# Altium integrated library IR-sensor.IntLib: 17 symbols
Pins are listed as number, name and electrical type; pins without a type are passive.

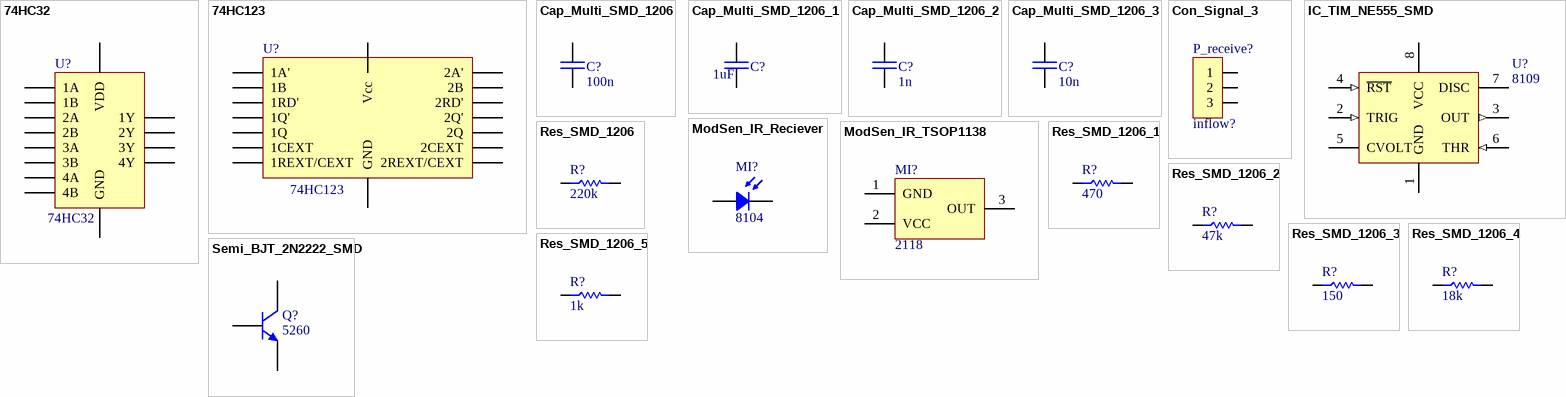
[diagram p0: symbols 74HC32 to Semi_BJT_2N2222_SMD]

## 74HC32
designator U?
Quadruple 2-Input Positive OR Gate; value: 74HC32
footprint SOIC-14
pins: 1 1A, 2 1B, 3 1Y, 4 2A, 5 2B, 6 2Y, 7 GND, 8 3Y, 9 3A, 10 3B, 11 4Y, 12 4A, 13 4B, 14 VDD

## 74HC123
designator U?
Dual retriggerable monostable multivibrator with reset; value: 74HC123
footprint SOIC-16
pins: 0 1A', 1 1B, 2 1RD', 3 1Q', 4 2Q, 5 2CEXT, 6 2REXT/CEXT, 7 GND, 8 2A', 9 2B, 10 2RD', 11 2Q', 12 1Q, 13 1CEXT, 14 1REXT/CEXT, 15 Vcc

## Cap_Multi_SMD_1206
designator C?, comment 100n
Bipolar ceramic capacitor SMD; Inflow: inflow?; Type: MultiLayer; Rating: Rating?; Validation: Valid; Package: 1206; Value: 100n
footprint CAP 1206/3216 (Chip Capacitor, 2-Leads, Body 3.25x1.60mm, IPC Medium Density)
pins: 1, 2

## Cap_Multi_SMD_1206_1
designator C?, comment 1uF
Bipolar ceramic capacitor SMD; Inflow: inflow?; Type: MultiLayer; Rating: Rating?; Validation: Valid; Package: 1206; Value: 1uF
footprint CAP 1206/3216 (Chip Capacitor, 2-Leads, Body 3.25x1.60mm, IPC Medium Density)
pins: 1, 2

## Cap_Multi_SMD_1206_2
designator C?, comment 1n
Bipolar ceramic capacitor SMD; Inflow: inflow?; Type: MultiLayer; Rating: Rating?; Validation: Valid; Package: 1206; Value: 1n
footprint CAP 1206/3216 (Chip Capacitor, 2-Leads, Body 3.25x1.60mm, IPC Medium Density)
pins: 1, 2

## Cap_Multi_SMD_1206_3
designator C?, comment 10n
Bipolar ceramic capacitor SMD; Inflow: inflow?; Type: MultiLayer; Rating: Rating?; Validation: Valid; Package: 1206; Value: 10n
footprint CAP 1206/3216 (Chip Capacitor, 2-Leads, Body 3.25x1.60mm, IPC Medium Density)
pins: 1, 2

## Con_Signal_3
designator P_receive?, comment Inflow: inflow?  (hidden comment: 3'Pin)
Signal Connector 3'Pin; Rating: Rating?; Validation: Valid; Value: 3'Pin; Package: Package?; Type: Type?
footprint MOLEX KK 0022272031
footprint JST XH B3B-XH-A
footprint JST XH B3B-XH-A - RIGHT
footprint HDR 1X3 (Connector; Header; 3 Position)
footprint Molex sda-70553-3pin (SL Right Angle Header W/LAtch & Trip-Pegs 2.54mm Centres)
pins: 1, 2, 3

## IC_TIM_NE555_SMD
designator U?, comment Inflow: 8109  (hidden comment: NE555)
Astable or monostable operation timer; Rating: Rating?; Validation: Valid; Value: NE555; Package: Package?; Type: Type?
footprint SO8_narrow_n (8-Pin Small Outline Package (SO8), IPC Medium Density)
footprint SO8_narrow_m (8-Pin Small Outline Package (SO8), IPC Low Density)
footprint SO8_narrow_l (8-Pin Small Outline Package (SO8), IPC High Density)
pins: 1 GND (power), 2 TRIG (in), 3 OUT (out), 4 ~{RST} (in), 5 CVOLT, 6 THR (in), 7 DISC (oc), 8 VCC (power)

## ModSen_IR_Reciever
designator MI?, comment Inflow: 8104  (hidden comment: 5'mm)
Infra Red Reciever Photo Diode; Rating: Rating?; Validation: NT; Value: 5'mm; Package: Package?; Type: Type?
footprint LED-5mm-IR Reciver
pins: 1, 2

## ModSen_IR_TSOP1138
designator MI?, comment Inflow: 2118  (hidden comment: TSOP1138)
Reciver Remot Control (IR) 30-56KHz; Rating: Rating?; Validation: NT; Value: TSOP1138; Package: Package?; Type: Type?
footprint IR10
footprint TSOP1238 (IR Sensor (TV Sensor))
pins: 1 GND, 2 VCC, 3 OUT

## Res_SMD_1206
designator R?, comment 220k
Resistor; Inflow: inflow?; Rating: 0.25W; Validation: Valid; Package: 1206; Type: 10%; Value: 220k
footprint RES 1206 (3216X08L) (Chip Resistor, 2-Leads, Body 3.2x1.6mm, IPC High Density _ (0.125 W))
pins: 1, 2

## Res_SMD_1206_1
designator R?, comment 470
Resistor; Inflow: inflow?; Rating: 0.25W; Validation: Valid; Package: 1206; Type: 10%; Value: 470
footprint RES 1206 (3216X08L) (Chip Resistor, 2-Leads, Body 3.2x1.6mm, IPC High Density _ (0.125 W))
pins: 1, 2

## Res_SMD_1206_2
designator R?, comment 47k
Resistor; Inflow: inflow?; Rating: 0.25W; Validation: Valid; Package: 1206; Type: 10%; Value: 47k
footprint RES 1206 (3216X08L) (Chip Resistor, 2-Leads, Body 3.2x1.6mm, IPC High Density _ (0.125 W))
pins: 1, 2

## Res_SMD_1206_3
designator R?, comment 150
Resistor; Inflow: inflow?; Rating: 0.25W; Validation: Valid; Package: 1206; Type: 10%; Value: 150
footprint RES 1206 (3216X08L) (Chip Resistor, 2-Leads, Body 3.2x1.6mm, IPC High Density _ (0.125 W))
pins: 1, 2

## Res_SMD_1206_4
designator R?, comment 18k
Resistor; Inflow: inflow?; Rating: 0.25W; Validation: Valid; Package: 1206; Type: 10%; Value: 18k
footprint RES 1206 (3216X08L) (Chip Resistor, 2-Leads, Body 3.2x1.6mm, IPC High Density _ (0.125 W))
pins: 1, 2

## Res_SMD_1206_5
designator R?, comment 1k
Resistor; Inflow: inflow?; Rating: 0.25W; Validation: Valid; Package: 1206; Type: 10%; Value: 1k
footprint RES 1206 (3216X08L) (Chip Resistor, 2-Leads, Body 3.2x1.6mm, IPC High Density _ (0.125 W))
pins: 1, 2

## Semi_BJT_2N2222_SMD
designator Q?, comment Inflow: 5260  (hidden comment: NPN)
NPN Switching Transistors; Rating: Rating?; Type: Type?; Validation: Valid; Value: NPN; Package: Package?
footprint SOT23_N (SOT23, 3-Leads, Body 2.9x1.3mm, Pitch 0.95mm, Lead Span 2.3mm, IPC Medium Density)
footprint SOT23_L (SOT23, 3-Leads, Body 2.9x1.3mm, Pitch 0.95mm, Lead Span 2.3mm, IPC High Density)
footprint SOT23_M (SOT23, 3-Leads, Body 2.9x1.3mm, Pitch 0.95mm, Lead Span 2.3mm, IPC Low Density)
pins: 1 B, 2 E, 3 C